# Altium integrated library Microchip Power Management Switching Regulator.IntLib: 304 symbols (part 3 of 9)
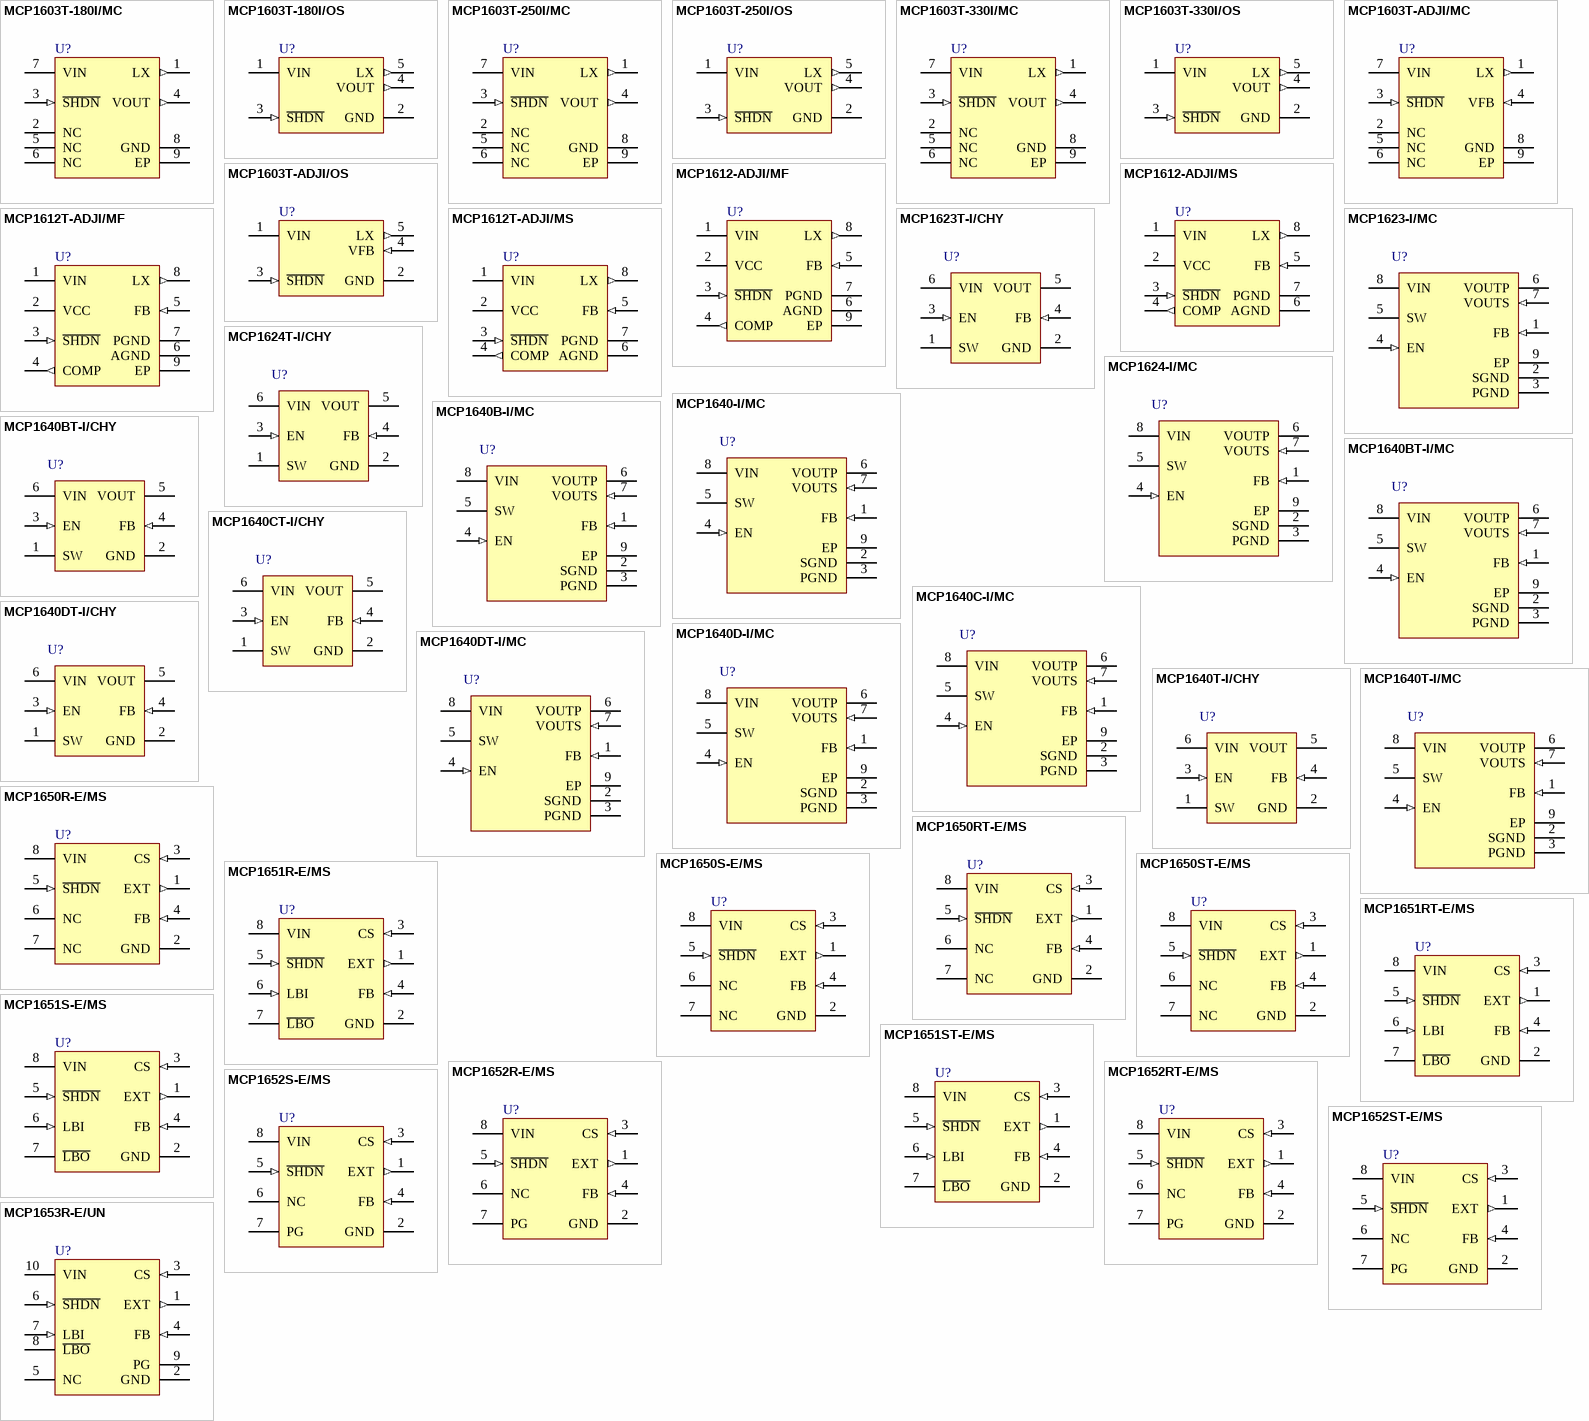
[diagram p9: symbols MCP1603T-180I/MC to MCP1653R-E/UN]

## MCP1651ST-E/MS
designator U?
750 kHz Boost Controller, Low Battery Detection, 2.55V, 8-Pin MSOP, Extended Temperature, Tape and Reel; Manufacturer: Microchip; PartNumber: MCP1651ST-E/MS; DatasheetVersion: revA, Mar-2004; PackageVersion: revBB, Aug-2009; PackageReference: MSOP-MS8; PackageDescription: 8-Lead Plastic Micro Small Outline Package (MS) [MSOP]; Supplier 1: Digi-Key; Supplier Part Number 1: MCP1651ST-E/MS-ND; Supplier 2: Mouser; Supplier Part Number 2: 579-MCP1651ST-E/MS; Mounting Technology: Surface Mount; ComponentLink1Description: Manufacturer URL; ComponentLink1URL: http://www.microchip.com/; ComponentLink2Description: Datasheet; ComponentLink2URL: http://ww1.microchip.com/downloads/en/DeviceDoc/21876a.pdf; ComponentLink3Description: Package Specification; ComponentLink3URL: http://www.microchip.com/stellent/groups/techpub_sg/documents/packagingspec/en012702.pdf
footprint MSOP-MS8_N (TSOP, 8-Leads, Body 3x3mm, Pitch 0.65mm, IPC Medium Density)
footprint MSOP-MS8_L (TSOP, 8-Leads, Body 3x3mm, Pitch 0.65mm, IPC High Density)
footprint MSOP-MS8_M (TSOP, 8-Leads, Body 3x3mm, Pitch 0.65mm, IPC Low Density)
pins: 1 EXT (out), 2 GND (power), 3 CS (in), 4 FB (in), 5 ~{SHDN} (in), 6 LBI (in), 7 ~{LBO} (oc), 8 VIN (power)

## MCP1652R-E/MS
designator U?
750 kHz Boost Controller, Power Good Indication, 2.0V, 8-Pin MSOP, Extended Temperature; Manufacturer: Microchip; PartNumber: MCP1652R-E/MS; DatasheetVersion: revA, Mar-2004; PackageVersion: revBB, Aug-2009; PackageReference: MSOP-MS8; PackageDescription: 8-Lead Plastic Micro Small Outline Package (MS) [MSOP]; Supplier 1: Digi-Key; Supplier Part Number 1: MCP1652R-E/MS-ND; Supplier 2: Mouser; Supplier Part Number 2: 579-MCP1652R-E/MS; Mounting Technology: Surface Mount; ComponentLink1Description: Manufacturer URL; ComponentLink1URL: http://www.microchip.com/; ComponentLink2Description: Datasheet; ComponentLink2URL: http://ww1.microchip.com/downloads/en/DeviceDoc/21876a.pdf; ComponentLink3Description: Package Specification; ComponentLink3URL: http://www.microchip.com/stellent/groups/techpub_sg/documents/packagingspec/en012702.pdf
footprint MSOP-MS8_N (TSOP, 8-Leads, Body 3x3mm, Pitch 0.65mm, IPC Medium Density)
footprint MSOP-MS8_L (TSOP, 8-Leads, Body 3x3mm, Pitch 0.65mm, IPC High Density)
footprint MSOP-MS8_M (TSOP, 8-Leads, Body 3x3mm, Pitch 0.65mm, IPC Low Density)
pins: 1 EXT (out), 2 GND (power), 3 CS (in), 4 FB (in), 5 ~{SHDN} (in), 6 NC, 7 PG (oc), 8 VIN (power)

## MCP1652RT-E/MS
designator U?
750 kHz Boost Controller, Power Good Indication, 2.0V, 8-Pin MSOP, Extended Temperature, Tape and Reel; Manufacturer: Microchip; PartNumber: MCP1652RT-E/MS; DatasheetVersion: revA, Mar-2004; PackageVersion: revBB, Aug-2009; PackageReference: MSOP-MS8; PackageDescription: 8-Lead Plastic Micro Small Outline Package (MS) [MSOP]; Supplier 1: Digi-Key; Supplier Part Number 1: MCP1652RT-E/MS-ND; Supplier 2: Mouser; Supplier Part Number 2: 579-MCP1652RT-E/MS; Mounting Technology: Surface Mount; ComponentLink1Description: Manufacturer URL; ComponentLink1URL: http://www.microchip.com/; ComponentLink2Description: Datasheet; ComponentLink2URL: http://ww1.microchip.com/downloads/en/DeviceDoc/21876a.pdf; ComponentLink3Description: Package Specification; ComponentLink3URL: http://www.microchip.com/stellent/groups/techpub_sg/documents/packagingspec/en012702.pdf
footprint MSOP-MS8_N (TSOP, 8-Leads, Body 3x3mm, Pitch 0.65mm, IPC Medium Density)
footprint MSOP-MS8_L (TSOP, 8-Leads, Body 3x3mm, Pitch 0.65mm, IPC High Density)
footprint MSOP-MS8_M (TSOP, 8-Leads, Body 3x3mm, Pitch 0.65mm, IPC Low Density)
pins: 1 EXT (out), 2 GND (power), 3 CS (in), 4 FB (in), 5 ~{SHDN} (in), 6 NC, 7 PG (oc), 8 VIN (power)

## MCP1652S-E/MS
designator U?
750 kHz Boost Controller, Power Good Indication, 2.55V, 8-Pin MSOP, Extended Temperature; Manufacturer: Microchip; PartNumber: MCP1652S-E/MS; DatasheetVersion: revA, Mar-2004; PackageVersion: revBB, Aug-2009; PackageReference: MSOP-MS8; PackageDescription: 8-Lead Plastic Micro Small Outline Package (MS) [MSOP]; Supplier 1: Digi-Key; Supplier Part Number 1: MCP1652S-E/MS-ND; Supplier 2: Farnell; Supplier Part Number 2: 1851936; Supplier 3: Newark; Supplier Part Number 3: 96K3711; Supplier 4: Mouser; Supplier Part Number 4: 579-MCP1652S-E/MS; Mounting Technology: Surface Mount; ComponentLink1Description: Manufacturer URL; ComponentLink1URL: http://www.microchip.com/; ComponentLink2Description: Datasheet; ComponentLink2URL: http://ww1.microchip.com/downloads/en/DeviceDoc/21876a.pdf; ComponentLink3Description: Package Specification; ComponentLink3URL: http://www.microchip.com/stellent/groups/techpub_sg/documents/packagingspec/en012702.pdf
footprint MSOP-MS8_N (TSOP, 8-Leads, Body 3x3mm, Pitch 0.65mm, IPC Medium Density)
footprint MSOP-MS8_L (TSOP, 8-Leads, Body 3x3mm, Pitch 0.65mm, IPC High Density)
footprint MSOP-MS8_M (TSOP, 8-Leads, Body 3x3mm, Pitch 0.65mm, IPC Low Density)
pins: 1 EXT (out), 2 GND (power), 3 CS (in), 4 FB (in), 5 ~{SHDN} (in), 6 NC, 7 PG (oc), 8 VIN (power)

## MCP1652ST-E/MS
designator U?
750 kHz Boost Controller, Power Good Indication, 2.55V, 8-Pin MSOP, Extended Temperature, Tape and Reel; Manufacturer: Microchip; PartNumber: MCP1652ST-E/MS; DatasheetVersion: revA, Mar-2004; PackageVersion: revBB, Aug-2009; PackageReference: MSOP-MS8; PackageDescription: 8-Lead Plastic Micro Small Outline Package (MS) [MSOP]; Supplier 1: Digi-Key; Supplier Part Number 1: MCP1652ST-E/MS-ND; Supplier 2: Mouser; Supplier Part Number 2: 579-MCP1652ST-E/MS; Mounting Technology: Surface Mount; ComponentLink1Description: Manufacturer URL; ComponentLink1URL: http://www.microchip.com/; ComponentLink2Description: Datasheet; ComponentLink2URL: http://ww1.microchip.com/downloads/en/DeviceDoc/21876a.pdf; ComponentLink3Description: Package Specification; ComponentLink3URL: http://www.microchip.com/stellent/groups/techpub_sg/documents/packagingspec/en012702.pdf
footprint MSOP-MS8_N (TSOP, 8-Leads, Body 3x3mm, Pitch 0.65mm, IPC Medium Density)
footprint MSOP-MS8_L (TSOP, 8-Leads, Body 3x3mm, Pitch 0.65mm, IPC High Density)
footprint MSOP-MS8_M (TSOP, 8-Leads, Body 3x3mm, Pitch 0.65mm, IPC Low Density)
pins: 1 EXT (out), 2 GND (power), 3 CS (in), 4 FB (in), 5 ~{SHDN} (in), 6 NC, 7 PG (oc), 8 VIN (power)

## MCP1653R-E/UN
designator U?
750 kHz Boost Controller, Low Battery Detection and PG, 2.0V, 10-Pin MSOP, Extended Temperature; Manufacturer: Microchip; PartNumber: MCP1653R-E/UN; DatasheetVersion: revA, Mar-2004; PackageVersion: revBB, Aug-2009; PackageReference: MSOP-UN10; PackageDescription: 10-Lead Plastic Micro Small Outline Package (UN) [MSOP]; Supplier 1: Digi-Key; Supplier Part Number 1: MCP1653R-E/UN-ND; Supplier 2: Farnell; Supplier Part Number 2: 1439379; Supplier 3: Newark; Supplier Part Number 3: 96K3712; Supplier 4: Mouser; Supplier Part Number 4: 579-MCP1653R-E/UN; Mounting Technology: Surface Mount; ComponentLink1Description: Manufacturer URL; ComponentLink1URL: http://www.microchip.com/; ComponentLink2Description: Datasheet; ComponentLink2URL: http://ww1.microchip.com/downloads/en/DeviceDoc/21876a.pdf; ComponentLink3Description: Package Specification; ComponentLink3URL: http://www.microchip.com/stellent/groups/techpub_sg/documents/packagingspec/en012702.pdf
footprint MSOP-UN10_N (TSSOP, 10-Leads, Body 3x3mm, Pitch 0.5mm, IPC Medium Density)
footprint MSOP-UN10_L (TSSOP, 10-Leads, Body 3x3mm, Pitch 0.5mm, IPC High Density)
footprint MSOP-UN10_M (TSSOP, 10-Leads, Body 3x3mm, Pitch 0.5mm, IPC Low Density)
pins: 1 EXT (out), 2 GND (power), 3 CS (in), 4 FB (in), 5 NC, 6 ~{SHDN} (in), 7 LBI (in), 8 ~{LBO} (oc), 9 PG (oc), 10 VIN (power)

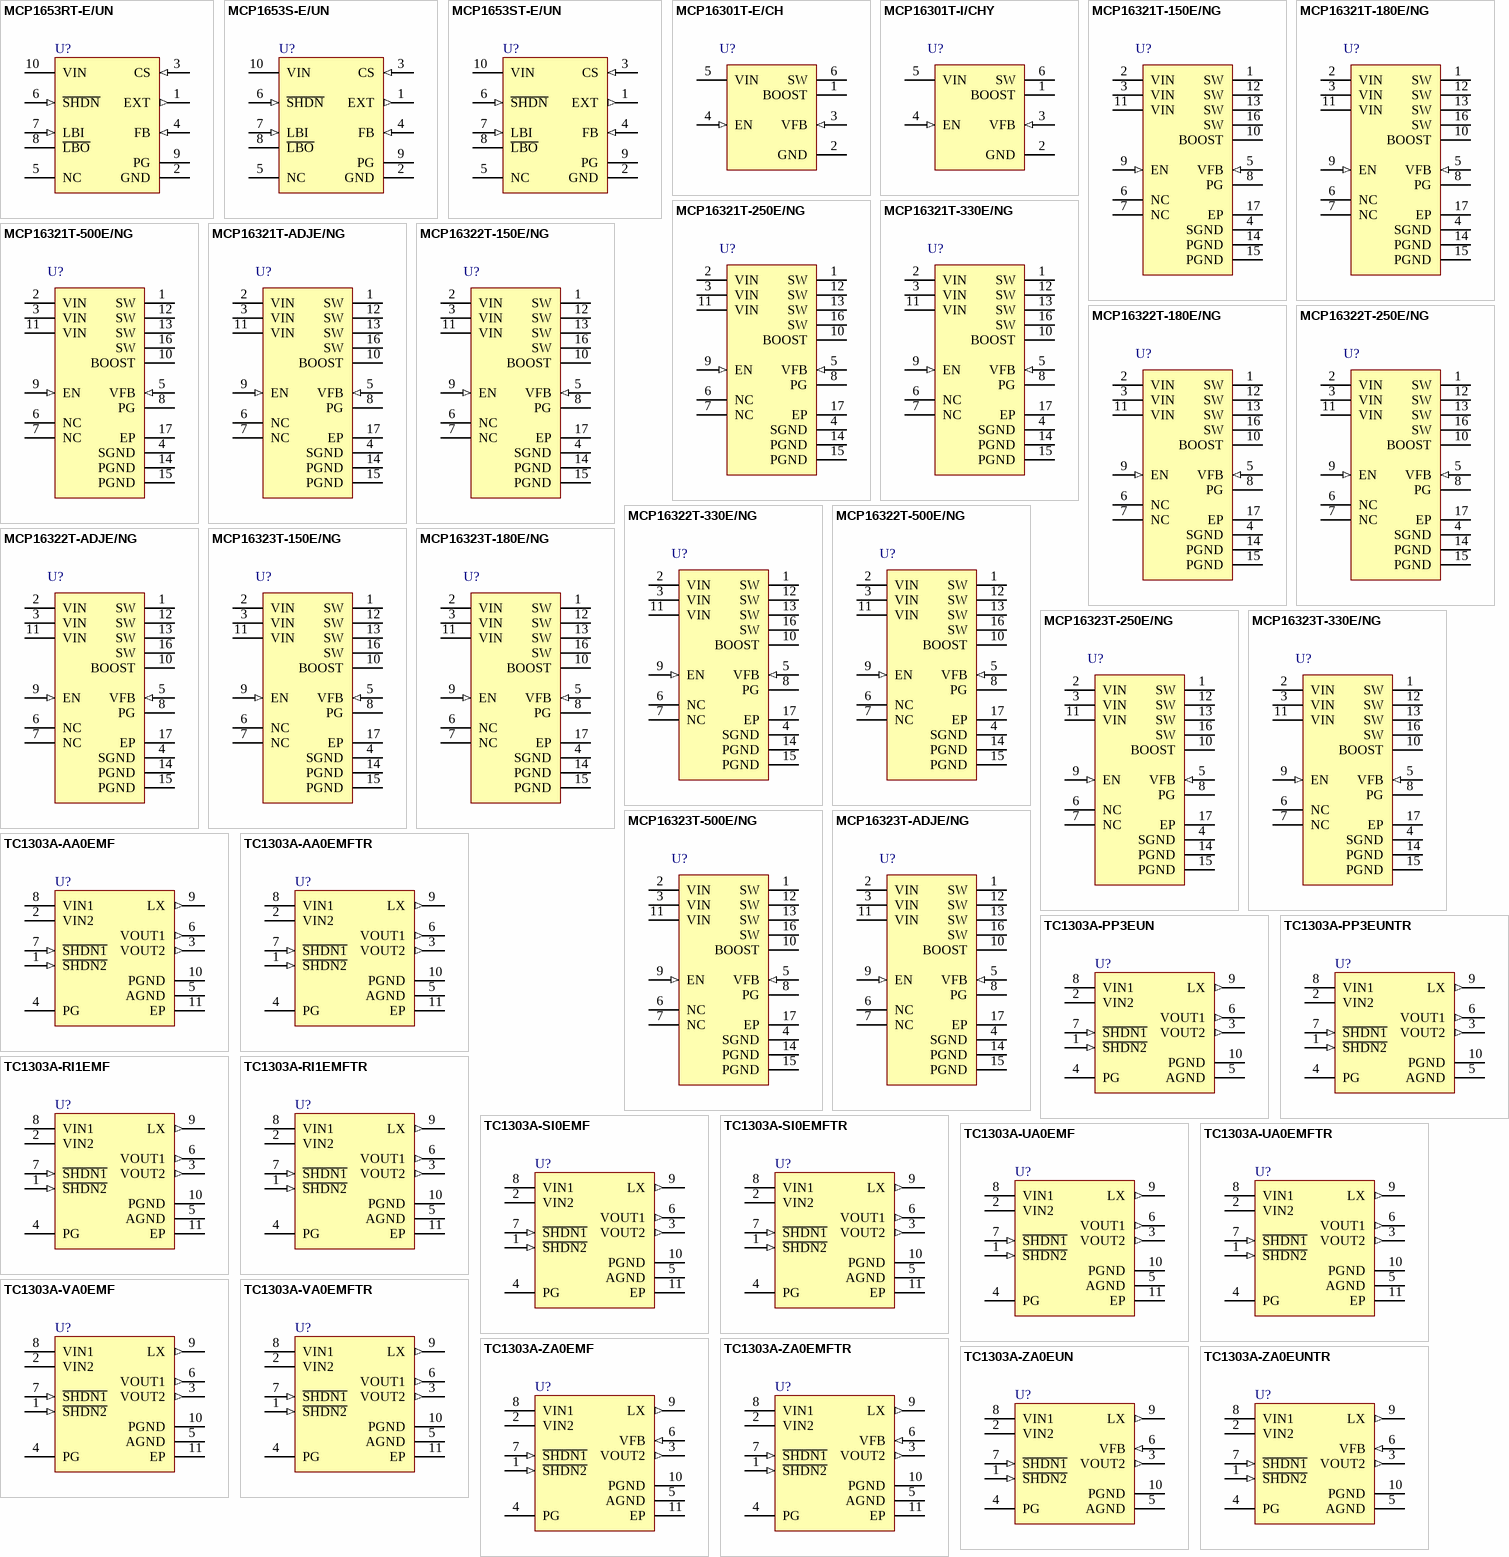
[diagram p2: symbols MCP1653RT-E/UN to TC1303A-ZA0EUNTR]

## MCP1653RT-E/UN
designator U?
750 kHz Boost Controller, Low Battery Detection and PG, 2.0V, 10-Pin MSOP, Extended Temperature, Tape and Reel; Manufacturer: Microchip; PartNumber: MCP1653RT-E/UN; DatasheetVersion: revA, Mar-2004; PackageVersion: revBB, Aug-2009; PackageReference: MSOP-UN10; PackageDescription: 10-Lead Plastic Micro Small Outline Package (UN) [MSOP]; Supplier 1: Digi-Key; Supplier Part Number 1: MCP1653RT-E/UN-ND; Supplier 2: Mouser; Supplier Part Number 2: 579-MCP1653RT-E/UN; Mounting Technology: Surface Mount; ComponentLink1Description: Manufacturer URL; ComponentLink1URL: http://www.microchip.com/; ComponentLink2Description: Datasheet; ComponentLink2URL: http://ww1.microchip.com/downloads/en/DeviceDoc/21876a.pdf; ComponentLink3Description: Package Specification; ComponentLink3URL: http://www.microchip.com/stellent/groups/techpub_sg/documents/packagingspec/en012702.pdf
footprint MSOP-UN10_N (TSSOP, 10-Leads, Body 3x3mm, Pitch 0.5mm, IPC Medium Density)
footprint MSOP-UN10_L (TSSOP, 10-Leads, Body 3x3mm, Pitch 0.5mm, IPC High Density)
footprint MSOP-UN10_M (TSSOP, 10-Leads, Body 3x3mm, Pitch 0.5mm, IPC Low Density)
pins: 1 EXT (out), 2 GND (power), 3 CS (in), 4 FB (in), 5 NC, 6 ~{SHDN} (in), 7 LBI (in), 8 ~{LBO} (oc), 9 PG (oc), 10 VIN (power)

## MCP1653S-E/UN
designator U?
750 kHz Boost Controller, Low Battery Detection and PG, 2.55V, 10-Pin MSOP, Extended Temperature; Manufacturer: Microchip; PartNumber: MCP1653S-E/UN; DatasheetVersion: revA, Mar-2004; PackageVersion: revBB, Aug-2009; PackageReference: MSOP-UN10; PackageDescription: 10-Lead Plastic Micro Small Outline Package (UN) [MSOP]; Supplier 1: Digi-Key; Supplier Part Number 1: MCP1653S-E/UN-ND; Supplier 2: Farnell; Supplier Part Number 2: 1851938; Supplier 3: Newark; Supplier Part Number 3: 96K3713; Supplier 4: Mouser; Supplier Part Number 4: 579-MCP1653S-E/UN; Mounting Technology: Surface Mount; ComponentLink1Description: Manufacturer URL; ComponentLink1URL: http://www.microchip.com/; ComponentLink2Description: Datasheet; ComponentLink2URL: http://ww1.microchip.com/downloads/en/DeviceDoc/21876a.pdf; ComponentLink3Description: Package Specification; ComponentLink3URL: http://www.microchip.com/stellent/groups/techpub_sg/documents/packagingspec/en012702.pdf
footprint MSOP-UN10_N (TSSOP, 10-Leads, Body 3x3mm, Pitch 0.5mm, IPC Medium Density)
footprint MSOP-UN10_L (TSSOP, 10-Leads, Body 3x3mm, Pitch 0.5mm, IPC High Density)
footprint MSOP-UN10_M (TSSOP, 10-Leads, Body 3x3mm, Pitch 0.5mm, IPC Low Density)
pins: 1 EXT (out), 2 GND (power), 3 CS (in), 4 FB (in), 5 NC, 6 ~{SHDN} (in), 7 LBI (in), 8 ~{LBO} (oc), 9 PG (oc), 10 VIN (power)

## MCP1653ST-E/UN
designator U?
750 kHz Boost Controller, Low Battery Detection and PG, 2.55V, 10-Pin MSOP, Extended Temperature, Tape and Reel; Manufacturer: Microchip; PartNumber: MCP1653ST-E/UN; DatasheetVersion: revA, Mar-2004; PackageVersion: revBB, Aug-2009; PackageReference: MSOP-UN10; PackageDescription: 10-Lead Plastic Micro Small Outline Package (UN) [MSOP]; Supplier 1: Digi-Key; Supplier Part Number 1: MCP1653ST-E/UN-ND; Supplier 2: Mouser; Supplier Part Number 2: 579-MCP1653ST-E/UN; Mounting Technology: Surface Mount; ComponentLink1Description: Manufacturer URL; ComponentLink1URL: http://www.microchip.com/; ComponentLink2Description: Datasheet; ComponentLink2URL: http://ww1.microchip.com/downloads/en/DeviceDoc/21876a.pdf; ComponentLink3Description: Package Specification; ComponentLink3URL: http://www.microchip.com/stellent/groups/techpub_sg/documents/packagingspec/en012702.pdf
footprint MSOP-UN10_N (TSSOP, 10-Leads, Body 3x3mm, Pitch 0.5mm, IPC Medium Density)
footprint MSOP-UN10_L (TSSOP, 10-Leads, Body 3x3mm, Pitch 0.5mm, IPC High Density)
footprint MSOP-UN10_M (TSSOP, 10-Leads, Body 3x3mm, Pitch 0.5mm, IPC Low Density)
pins: 1 EXT (out), 2 GND (power), 3 CS (in), 4 FB (in), 5 NC, 6 ~{SHDN} (in), 7 LBI (in), 8 ~{LBO} (oc), 9 PG (oc), 10 VIN (power)

## MCP16301T-E/CH
designator U?
High-Voltage Input Integrated Switch Step-Down Regulator, 600 mA, Input Voltage 4.0 to 30 V, Output Voltage 2.0 to 15 V, -40 to 125 degC, 6-pin SOT-23 (CH6), Tape and Reel; Manufacturer: Microchip; PartNumber: MCP16301T-E/CH; DatasheetVersion: Rev. B; PackageVersion: C04-028B; PackageReference: SOT-23-CH6; PackageDescription: 6-Lead Plastic Small Outline Transistor, 2.9 x 1.55 mm Body, 0.95 mm Pitch; Supplier 1: Digi-Key; Supplier Part Number 1: MCP16301T-E/CH-ND; Supplier 2: Newark; Supplier Part Number 2: 31W8729; Supplier 3: Mouser; Supplier Part Number 3: 579-MCP16301T-E/CH; Mounting Technology: Surface Mount; ComponentLink1Description: Manufacturer URL; ComponentLink1URL: http://www.microchip.com; ComponentLink2Description: Datasheet; ComponentLink2URL: http://ww1.microchip.com/downloads/en/DeviceDoc/25004B.pdf; ComponentLink3Description: Package Specification; ComponentLink3URL: http://www.microchip.com/stellent/groups/techpub_sg/documents/packagingspec/en012702.pdf; ComponentLink4Description: Product URL; ComponentLink4URL: http://www.microchip.com/MCP16301
footprint MCHP-SOT-23-CH6_N (SOT23, 6-Leads, Body 2.9x1.55mm, Pitch 0.95mm, IPC Medium Density)
footprint MCHP-SOT-23-CH6_L (SOT23, 6-Leads, Body 2.9x1.55mm, Pitch 0.95mm, IPC High Density)
footprint MCHP-SOT-23-CH6_M (SOT23, 6-Leads, Body 2.9x1.55mm, Pitch 0.95mm, IPC Low Density)
pins: 1 BOOST (power) "Boost voltage that drives the internal NMOS control switch. A bootstrap capacitor is connected between the BOOST and SW pins.", 2 GND (power) "Ground Pin", 3 VFB (in) "Output voltage feedback pin. Connect VFB to an external resistor divider to set the output voltage.", 4 EN (in) "Enable pin. Logic high enables the operation. Do not allow this pin to float", 5 VIN (power) "Input supply voltage pin for power and internal biasing.", 6 SW (power) "Output switch node, connects to the inductor, freewheeling diode and the bootstrap capacitor."

## MCP16301T-I/CHY
designator U?
High-Voltage Input Integrated Switch Step-Down Regulator, 600 mA, Input Voltage 4.0 to 30 V, Output Voltage 2.0 to 15 V, -40 to 85 degC, 6-pin SOT-23 (CHY6), Tape and Reel; Manufacturer: Microchip; PartNumber: MCP16301T-I/CHY; DatasheetVersion: Rev. B; PackageVersion: C04-028B; PackageReference: SOT-23-CHY6; PackageDescription: 6-Lead Plastic Small Outline Transistor, 2.9 x 1.55 mm Body, 0.95 mm Pitch; Supplier 1: Digi-Key; Supplier Part Number 1: MCP16301T-I/CHYTR-ND; Supplier 2: Digi-Key; Supplier Part Number 2: MCP16301T-I/CHYCT-ND; Supplier 3: Digi-Key; Supplier Part Number 3: MCP16301T-I/CHYDKR-ND; Supplier 4: Farnell; Supplier Part Number 4: 2009288RL; Supplier 5: Farnell; Supplier Part Number 5: 2009288; Supplier 6: Farnell; Supplier Part Number 6: 1936559; Supplier 7: Newark; Supplier Part Number 7: 30T2375; Supplier 8: Mouser; Supplier Part Number 8: 579-MCP16301T-I/CHY; Mounting Technology: Surface Mount; ComponentLink1Description: Manufacturer URL; ComponentLink1URL: http://www.microchip.com; ComponentLink2Description: Datasheet; ComponentLink2URL: http://ww1.microchip.com/downloads/en/DeviceDoc/25004B.pdf; ComponentLink3Description: Package Specification; ComponentLink3URL: http://www.microchip.com/stellent/groups/techpub_sg/documents/packagingspec/en012702.pdf; ComponentLink4Description: Product URL; ComponentLink4URL: http://www.microchip.com/MCP16301
footprint MCHP-SOT-23-CHY6_N (SOT23, 6-Leads, Body 2.9x1.55mm, Pitch 0.95mm, IPC Medium Density)
footprint MCHP-SOT-23-CHY6_L (SOT23, 6-Leads, Body 2.9x1.55mm, Pitch 0.95mm, IPC High Density)
footprint MCHP-SOT-23-CHY6_M (SOT23, 6-Leads, Body 2.9x1.55mm, Pitch 0.95mm, IPC Low Density)
pins: 1 BOOST (power) "Boost voltage that drives the internal NMOS control switch. A bootstrap capacitor is connected between the BOOST and SW pins.", 2 GND (power) "Ground Pin", 3 VFB (in) "Output voltage feedback pin. Connect VFB to an external resistor divider to set the output voltage.", 4 EN (in) "Enable pin. Logic high enables the operation. Do not allow this pin to float", 5 VIN (power) "Input supply voltage pin for power and internal biasing.", 6 SW (power) "Output switch node, connects to the inductor, freewheeling diode and the bootstrap capacitor."

## MCP16321T-150E/NG
designator U?
High Efficiency Synchronous Buck Regulator with Power Good Indication, Input Voltage 6 to 24 V, Output Voltage 1.5 V, -40 to 125 degC, 16-pin VQFN (NG16), Tape and Reel; Manufacturer: Microchip; PartNumber: MCP16321T-150E/NG; DatasheetVersion: Rev. A; PackageVersion: C04-197A; PackageReference: VQFN-NG16; PackageDescription: 16-Lead Plastic Quad Flat, 3 x 3 mm Body, 0.5 mm Pitch; Supplier 1: Digi-Key; Supplier Part Number 1: MCP16321T-150E/NGTR-ND; Supplier 2: Digi-Key; Supplier Part Number 2: MCP16321T-150E/NGCT-ND; Supplier 3: Digi-Key; Supplier Part Number 3: MCP16321T-150E/NGDKR-ND; Supplier 4: Mouser; Supplier Part Number 4: 579-MCP16321T150ENG; Mounting Technology: Surface Mount; ComponentLink1Description: Manufacturer URL; ComponentLink1URL: http://www.microchip.com; ComponentLink2Description: Datasheet; ComponentLink2URL: http://ww1.microchip.com/downloads/en/DeviceDoc/22285A.pdf; ComponentLink3Description: Package Specification; ComponentLink3URL: http://www.microchip.com/stellent/groups/techpub_sg/documents/packagingspec/en012702.pdf; ComponentLink4Description: Product URL; ComponentLink4URL: http://www.microchip.com/MCP16321
footprint MCHP-VQFN-NG16_N (QFN, 16-Leads, Body 3x3mm, Pitch 0.5mm, Thermal Pad 1.675x1.675mm, IPC Medium Density)
footprint MCHP-VQFN-NG16_L (QFN, 16-Leads, Body 3x3mm, Pitch 0.5mm, Thermal Pad 1.675x1.675mm, IPC High Density)
footprint MCHP-VQFN-NG16_M (QFN, 16-Leads, Body 3x3mm, Pitch 0.5mm, Thermal Pad 1.675x1.675mm, IPC Low Density)
pins: 1 SW (power) "Output switch node, connects to the inductor and the bootstrap capacitor", 2 VIN (power) "Input supply voltage pin for power and internal biasing", 3 VIN (power) "Input supply voltage pin for power and internal biasing", 4 SGND (power) "Primary signal ground", 5 VFB (in) "Output voltage feedback pin. Connect VFB to VOUT for fixed version and output resistor divider for adjustable version.", 6 NC "No Connection", 7 NC "No Connection", 8 PG (oc) "Power Good open-drain output, pulled up to a maximum of 6V", 9 EN (in) "Enable input pin. Logic high enables the operation. Internally pulled up, pull EN pin low to disable regulator’s output. Maximum voltage on EN input is 6V.", 10 BOOST (power) "Boost voltage that drives the internal NMOS control switch. A bootstrap capacitor is connected between the BOOST and SW pins.", 11 VIN (power) "Input supply voltage pin for power and internal biasing", 12 SW (power) "Output switch node, connects to the inductor and the bootstrap capacitor", 13 SW (power) "Output switch node, connects to the inductor and the bootstrap capacitor", 14 PGND (power) "GND supply for the internal low-side NMOS/integrated diode", 15 PGND (power) "GND supply for the internal low-side NMOS/integrated diode", 16 SW (power) "Output switch node, connects to the inductor and the bootstrap capacitor", 17 EP (power) "Exposed Thermal Pad (EP); must be connected to GND"

## MCP16321T-180E/NG
designator U?
High Efficiency Synchronous Buck Regulator with Power Good Indication, Input Voltage 6 to 24 V, Output Voltage 1.8 V, -40 to 125 degC, 16-pin VQFN (NG16), Tape and Reel; Manufacturer: Microchip; PartNumber: MCP16321T-180E/NG; DatasheetVersion: Rev. A; PackageVersion: C04-197A; PackageReference: VQFN-NG16; PackageDescription: 16-Lead Plastic Quad Flat, 3 x 3 mm Body, 0.5 mm Pitch; Supplier 1: Digi-Key; Supplier Part Number 1: MCP16321T-180E/NGTR-ND; Supplier 2: Digi-Key; Supplier Part Number 2: MCP16321T-180E/NGCT-ND; Supplier 3: Digi-Key; Supplier Part Number 3: MCP16321T-180E/NGDKR-ND; Supplier 4: Farnell; Supplier Part Number 4: 2080508; Supplier 5: Newark; Supplier Part Number 5: 76T2214; Supplier 6: Mouser; Supplier Part Number 6: 579-MCP16321T-180ENG; Mounting Technology: Surface Mount; ComponentLink1Description: Manufacturer URL; ComponentLink1URL: http://www.microchip.com; ComponentLink2Description: Datasheet; ComponentLink2URL: http://ww1.microchip.com/downloads/en/DeviceDoc/22285A.pdf; ComponentLink3Description: Package Specification; ComponentLink3URL: http://www.microchip.com/stellent/groups/techpub_sg/documents/packagingspec/en012702.pdf; ComponentLink4Description: Product URL; ComponentLink4URL: http://www.microchip.com/MCP16321
footprint MCHP-VQFN-NG16_N (QFN, 16-Leads, Body 3x3mm, Pitch 0.5mm, Thermal Pad 1.675x1.675mm, IPC Medium Density)
footprint MCHP-VQFN-NG16_L (QFN, 16-Leads, Body 3x3mm, Pitch 0.5mm, Thermal Pad 1.675x1.675mm, IPC High Density)
footprint MCHP-VQFN-NG16_M (QFN, 16-Leads, Body 3x3mm, Pitch 0.5mm, Thermal Pad 1.675x1.675mm, IPC Low Density)
pins: 1 SW (power) "Output switch node, connects to the inductor and the bootstrap capacitor", 2 VIN (power) "Input supply voltage pin for power and internal biasing", 3 VIN (power) "Input supply voltage pin for power and internal biasing", 4 SGND (power) "Primary signal ground", 5 VFB (in) "Output voltage feedback pin. Connect VFB to VOUT for fixed version and output resistor divider for adjustable version.", 6 NC "No Connection", 7 NC "No Connection", 8 PG (oc) "Power Good open-drain output, pulled up to a maximum of 6V", 9 EN (in) "Enable input pin. Logic high enables the operation. Internally pulled up, pull EN pin low to disable regulator’s output. Maximum voltage on EN input is 6V.", 10 BOOST (power) "Boost voltage that drives the internal NMOS control switch. A bootstrap capacitor is connected between the BOOST and SW pins.", 11 VIN (power) "Input supply voltage pin for power and internal biasing", 12 SW (power) "Output switch node, connects to the inductor and the bootstrap capacitor", 13 SW (power) "Output switch node, connects to the inductor and the bootstrap capacitor", 14 PGND (power) "GND supply for the internal low-side NMOS/integrated diode", 15 PGND (power) "GND supply for the internal low-side NMOS/integrated diode", 16 SW (power) "Output switch node, connects to the inductor and the bootstrap capacitor", 17 EP (power) "Exposed Thermal Pad (EP); must be connected to GND"

## MCP16321T-250E/NG
designator U?
High Efficiency Synchronous Buck Regulator with Power Good Indication, Input Voltage 6 to 24 V, Output Voltage 2.5 V, -40 to 125 degC, 16-pin VQFN (NG16), Tape and Reel; Manufacturer: Microchip; PartNumber: MCP16321T-250E/NG; DatasheetVersion: Rev. A; PackageVersion: C04-197A; PackageReference: VQFN-NG16; PackageDescription: 16-Lead Plastic Quad Flat, 3 x 3 mm Body, 0.5 mm Pitch; Supplier 1: Digi-Key; Supplier Part Number 1: MCP16321T-250E/NGTR-ND; Supplier 2: Digi-Key; Supplier Part Number 2: MCP16321T-250E/NGCT-ND; Supplier 3: Digi-Key; Supplier Part Number 3: MCP16321T-250E/NGDKR-ND; Supplier 4: Mouser; Supplier Part Number 4: 579-MCP16321T250ENG; Mounting Technology: Surface Mount; ComponentLink1Description: Manufacturer URL; ComponentLink1URL: http://www.microchip.com; ComponentLink2Description: Datasheet; ComponentLink2URL: http://ww1.microchip.com/downloads/en/DeviceDoc/22285A.pdf; ComponentLink3Description: Package Specification; ComponentLink3URL: http://www.microchip.com/stellent/groups/techpub_sg/documents/packagingspec/en012702.pdf; ComponentLink4Description: Product URL; ComponentLink4URL: http://www.microchip.com/MCP16321
footprint MCHP-VQFN-NG16_N (QFN, 16-Leads, Body 3x3mm, Pitch 0.5mm, Thermal Pad 1.675x1.675mm, IPC Medium Density)
footprint MCHP-VQFN-NG16_L (QFN, 16-Leads, Body 3x3mm, Pitch 0.5mm, Thermal Pad 1.675x1.675mm, IPC High Density)
footprint MCHP-VQFN-NG16_M (QFN, 16-Leads, Body 3x3mm, Pitch 0.5mm, Thermal Pad 1.675x1.675mm, IPC Low Density)
pins: 1 SW (power) "Output switch node, connects to the inductor and the bootstrap capacitor", 2 VIN (power) "Input supply voltage pin for power and internal biasing", 3 VIN (power) "Input supply voltage pin for power and internal biasing", 4 SGND (power) "Primary signal ground", 5 VFB (in) "Output voltage feedback pin. Connect VFB to VOUT for fixed version and output resistor divider for adjustable version.", 6 NC "No Connection", 7 NC "No Connection", 8 PG (oc) "Power Good open-drain output, pulled up to a maximum of 6V", 9 EN (in) "Enable input pin. Logic high enables the operation. Internally pulled up, pull EN pin low to disable regulator’s output. Maximum voltage on EN input is 6V.", 10 BOOST (power) "Boost voltage that drives the internal NMOS control switch. A bootstrap capacitor is connected between the BOOST and SW pins.", 11 VIN (power) "Input supply voltage pin for power and internal biasing", 12 SW (power) "Output switch node, connects to the inductor and the bootstrap capacitor", 13 SW (power) "Output switch node, connects to the inductor and the bootstrap capacitor", 14 PGND (power) "GND supply for the internal low-side NMOS/integrated diode", 15 PGND (power) "GND supply for the internal low-side NMOS/integrated diode", 16 SW (power) "Output switch node, connects to the inductor and the bootstrap capacitor", 17 EP (power) "Exposed Thermal Pad (EP); must be connected to GND"

## MCP16321T-330E/NG
designator U?
High Efficiency Synchronous Buck Regulator with Power Good Indication, Input Voltage 6 to 24 V, Output Voltage 3.3 V, -40 to 125 degC, 16-pin VQFN (NG16), Tape and Reel; Manufacturer: Microchip; PartNumber: MCP16321T-330E/NG; DatasheetVersion: Rev. A; PackageVersion: C04-197A; PackageReference: VQFN-NG16; PackageDescription: 16-Lead Plastic Quad Flat, 3 x 3 mm Body, 0.5 mm Pitch; Supplier 1: Digi-Key; Supplier Part Number 1: MCP16321T-330E/NGTR-ND; Supplier 2: Digi-Key; Supplier Part Number 2: MCP16321T-330E/NGCT-ND; Supplier 3: Digi-Key; Supplier Part Number 3: MCP16321T-330E/NGDKR-ND; Supplier 4: Farnell; Supplier Part Number 4: 2080509; Supplier 5: Newark; Supplier Part Number 5: 83T2987; Supplier 6: Newark; Supplier Part Number 6: 76T2216; Supplier 7: Mouser; Supplier Part Number 7: 579-MCP16321T-330ENG; Mounting Technology: Surface Mount; ComponentLink1Description: Manufacturer URL; ComponentLink1URL: http://www.microchip.com; ComponentLink2Description: Datasheet; ComponentLink2URL: http://ww1.microchip.com/downloads/en/DeviceDoc/22285A.pdf; ComponentLink3Description: Package Specification; ComponentLink3URL: http://www.microchip.com/stellent/groups/techpub_sg/documents/packagingspec/en012702.pdf; ComponentLink4Description: Product URL; ComponentLink4URL: http://www.microchip.com/MCP16321
footprint MCHP-VQFN-NG16_N (QFN, 16-Leads, Body 3x3mm, Pitch 0.5mm, Thermal Pad 1.675x1.675mm, IPC Medium Density)
footprint MCHP-VQFN-NG16_L (QFN, 16-Leads, Body 3x3mm, Pitch 0.5mm, Thermal Pad 1.675x1.675mm, IPC High Density)
footprint MCHP-VQFN-NG16_M (QFN, 16-Leads, Body 3x3mm, Pitch 0.5mm, Thermal Pad 1.675x1.675mm, IPC Low Density)
pins: 1 SW (power) "Output switch node, connects to the inductor and the bootstrap capacitor", 2 VIN (power) "Input supply voltage pin for power and internal biasing", 3 VIN (power) "Input supply voltage pin for power and internal biasing", 4 SGND (power) "Primary signal ground", 5 VFB (in) "Output voltage feedback pin. Connect VFB to VOUT for fixed version and output resistor divider for adjustable version.", 6 NC "No Connection", 7 NC "No Connection", 8 PG (oc) "Power Good open-drain output, pulled up to a maximum of 6V", 9 EN (in) "Enable input pin. Logic high enables the operation. Internally pulled up, pull EN pin low to disable regulator’s output. Maximum voltage on EN input is 6V.", 10 BOOST (power) "Boost voltage that drives the internal NMOS control switch. A bootstrap capacitor is connected between the BOOST and SW pins.", 11 VIN (power) "Input supply voltage pin for power and internal biasing", 12 SW (power) "Output switch node, connects to the inductor and the bootstrap capacitor", 13 SW (power) "Output switch node, connects to the inductor and the bootstrap capacitor", 14 PGND (power) "GND supply for the internal low-side NMOS/integrated diode", 15 PGND (power) "GND supply for the internal low-side NMOS/integrated diode", 16 SW (power) "Output switch node, connects to the inductor and the bootstrap capacitor", 17 EP (power) "Exposed Thermal Pad (EP); must be connected to GND"

## MCP16321T-500E/NG
designator U?
High Efficiency Synchronous Buck Regulator with Power Good Indication, Input Voltage 6 to 24 V, Output Voltage 5.0 V, -40 to 125 degC, 16-pin VQFN (NG16), Tape and Reel; Manufacturer: Microchip; PartNumber: MCP16321T-500E/NG; DatasheetVersion: Rev. A; PackageVersion: C04-197A; PackageReference: VQFN-NG16; PackageDescription: 16-Lead Plastic Quad Flat, 3 x 3 mm Body, 0.5 mm Pitch; Supplier 1: Digi-Key; Supplier Part Number 1: MCP16321T-500E/NGTR-ND; Supplier 2: Digi-Key; Supplier Part Number 2: MCP16321T-500E/NGCT-ND; Supplier 3: Digi-Key; Supplier Part Number 3: MCP16321T-500E/NGDKR-ND; Supplier 4: Farnell; Supplier Part Number 4: 2080510; Supplier 5: Newark; Supplier Part Number 5: 83T2988; Supplier 6: Newark; Supplier Part Number 6: 76T2217; Supplier 7: Mouser; Supplier Part Number 7: 579-MCP16321T-500ENG; Mounting Technology: Surface Mount; ComponentLink1Description: Manufacturer URL; ComponentLink1URL: http://www.microchip.com; ComponentLink2Description: Datasheet; ComponentLink2URL: http://ww1.microchip.com/downloads/en/DeviceDoc/22285A.pdf; ComponentLink3Description: Package Specification; ComponentLink3URL: http://www.microchip.com/stellent/groups/techpub_sg/documents/packagingspec/en012702.pdf; ComponentLink4Description: Product URL; ComponentLink4URL: http://www.microchip.com/MCP16321
footprint MCHP-VQFN-NG16_N (QFN, 16-Leads, Body 3x3mm, Pitch 0.5mm, Thermal Pad 1.675x1.675mm, IPC Medium Density)
footprint MCHP-VQFN-NG16_L (QFN, 16-Leads, Body 3x3mm, Pitch 0.5mm, Thermal Pad 1.675x1.675mm, IPC High Density)
footprint MCHP-VQFN-NG16_M (QFN, 16-Leads, Body 3x3mm, Pitch 0.5mm, Thermal Pad 1.675x1.675mm, IPC Low Density)
pins: 1 SW (power) "Output switch node, connects to the inductor and the bootstrap capacitor", 2 VIN (power) "Input supply voltage pin for power and internal biasing", 3 VIN (power) "Input supply voltage pin for power and internal biasing", 4 SGND (power) "Primary signal ground", 5 VFB (in) "Output voltage feedback pin. Connect VFB to VOUT for fixed version and output resistor divider for adjustable version.", 6 NC "No Connection", 7 NC "No Connection", 8 PG (oc) "Power Good open-drain output, pulled up to a maximum of 6V", 9 EN (in) "Enable input pin. Logic high enables the operation. Internally pulled up, pull EN pin low to disable regulator’s output. Maximum voltage on EN input is 6V.", 10 BOOST (power) "Boost voltage that drives the internal NMOS control switch. A bootstrap capacitor is connected between the BOOST and SW pins.", 11 VIN (power) "Input supply voltage pin for power and internal biasing", 12 SW (power) "Output switch node, connects to the inductor and the bootstrap capacitor", 13 SW (power) "Output switch node, connects to the inductor and the bootstrap capacitor", 14 PGND (power) "GND supply for the internal low-side NMOS/integrated diode", 15 PGND (power) "GND supply for the internal low-side NMOS/integrated diode", 16 SW (power) "Output switch node, connects to the inductor and the bootstrap capacitor", 17 EP (power) "Exposed Thermal Pad (EP); must be connected to GND"

## MCP16321T-ADJE/NG
designator U?
High Efficiency Synchronous Buck Regulator with Power Good Indication, Input Voltage 6 to 24 V, Output Voltage 0.9 to 5 V, -40 to 125 degC, 16-pin VQFN (NG16), Tape and Reel; Manufacturer: Microchip; PartNumber: MCP16321T-ADJE/NG; DatasheetVersion: Rev. A; PackageVersion: C04-197A; PackageReference: VQFN-NG16; PackageDescription: 16-Lead Plastic Quad Flat, 3 x 3 mm Body, 0.5 mm Pitch; Supplier 1: Digi-Key; Supplier Part Number 1: MCP16321T-ADJE/NGTR-ND; Supplier 2: Digi-Key; Supplier Part Number 2: MCP16321T-ADJE/NGCT-ND; Supplier 3: Digi-Key; Supplier Part Number 3: MCP16321T-ADJE/NGDKR-ND; Supplier 4: Farnell; Supplier Part Number 4: 2080511; Supplier 5: Newark; Supplier Part Number 5: 83T2985; Supplier 6: Newark; Supplier Part Number 6: 76T2212; Supplier 7: Mouser; Supplier Part Number 7: 579-MCP16321T-ADJENG; Mounting Technology: Surface Mount; ComponentLink1Description: Manufacturer URL; ComponentLink1URL: http://www.microchip.com; ComponentLink2Description: Datasheet; ComponentLink2URL: http://ww1.microchip.com/downloads/en/DeviceDoc/22285A.pdf; ComponentLink3Description: Package Specification; ComponentLink3URL: http://www.microchip.com/stellent/groups/techpub_sg/documents/packagingspec/en012702.pdf; ComponentLink4Description: Product URL; ComponentLink4URL: http://www.microchip.com/MCP16321
footprint MCHP-VQFN-NG16_N (QFN, 16-Leads, Body 3x3mm, Pitch 0.5mm, Thermal Pad 1.675x1.675mm, IPC Medium Density)
footprint MCHP-VQFN-NG16_L (QFN, 16-Leads, Body 3x3mm, Pitch 0.5mm, Thermal Pad 1.675x1.675mm, IPC High Density)
footprint MCHP-VQFN-NG16_M (QFN, 16-Leads, Body 3x3mm, Pitch 0.5mm, Thermal Pad 1.675x1.675mm, IPC Low Density)
pins: 1 SW (power) "Output switch node, connects to the inductor and the bootstrap capacitor", 2 VIN (power) "Input supply voltage pin for power and internal biasing", 3 VIN (power) "Input supply voltage pin for power and internal biasing", 4 SGND (power) "Primary signal ground", 5 VFB (in) "Output voltage feedback pin. Connect VFB to VOUT for fixed version and output resistor divider for adjustable version.", 6 NC "No Connection", 7 NC "No Connection", 8 PG (oc) "Power Good open-drain output, pulled up to a maximum of 6V", 9 EN (in) "Enable input pin. Logic high enables the operation. Internally pulled up, pull EN pin low to disable regulator’s output. Maximum voltage on EN input is 6V.", 10 BOOST (power) "Boost voltage that drives the internal NMOS control switch. A bootstrap capacitor is connected between the BOOST and SW pins.", 11 VIN (power) "Input supply voltage pin for power and internal biasing", 12 SW (power) "Output switch node, connects to the inductor and the bootstrap capacitor", 13 SW (power) "Output switch node, connects to the inductor and the bootstrap capacitor", 14 PGND (power) "GND supply for the internal low-side NMOS/integrated diode", 15 PGND (power) "GND supply for the internal low-side NMOS/integrated diode", 16 SW (power) "Output switch node, connects to the inductor and the bootstrap capacitor", 17 EP (power) "Exposed Thermal Pad (EP); must be connected to GND"

## MCP16322T-150E/NG
designator U?
High Efficiency Synchronous Buck Regulator with Power Good Indication, Input Voltage 6 to 24 V, Output Voltage 1.5 V, -40 to 125 degC, 16-pin VQFN (NG16), Tape and Reel; Manufacturer: Microchip; PartNumber: MCP16322T-150E/NG; DatasheetVersion: Rev. A; PackageVersion: C04-197A; PackageReference: VQFN-NG16; PackageDescription: 16-Lead Plastic Quad Flat, 3 x 3 mm Body, 0.5 mm Pitch; Supplier 1: Digi-Key; Supplier Part Number 1: MCP16322T-150E/NGTR-ND; Supplier 2: Digi-Key; Supplier Part Number 2: MCP16322T-150E/NGCT-ND; Supplier 3: Digi-Key; Supplier Part Number 3: MCP16322T-150E/NGDKR-ND; Supplier 4: Mouser; Supplier Part Number 4: 579-MCP16322T150ENG; Mounting Technology: Surface Mount; ComponentLink1Description: Manufacturer URL; ComponentLink1URL: http://www.microchip.com; ComponentLink2Description: Datasheet; ComponentLink2URL: http://ww1.microchip.com/downloads/en/DeviceDoc/22285A.pdf; ComponentLink3Description: Package Specification; ComponentLink3URL: http://www.microchip.com/stellent/groups/techpub_sg/documents/packagingspec/en012702.pdf; ComponentLink4Description: Product URL; ComponentLink4URL: http://www.microchip.com/MCP16322
footprint MCHP-VQFN-NG16_N (QFN, 16-Leads, Body 3x3mm, Pitch 0.5mm, Thermal Pad 1.675x1.675mm, IPC Medium Density)
footprint MCHP-VQFN-NG16_L (QFN, 16-Leads, Body 3x3mm, Pitch 0.5mm, Thermal Pad 1.675x1.675mm, IPC High Density)
footprint MCHP-VQFN-NG16_M (QFN, 16-Leads, Body 3x3mm, Pitch 0.5mm, Thermal Pad 1.675x1.675mm, IPC Low Density)
pins: 1 SW (power) "Output switch node, connects to the inductor and the bootstrap capacitor", 2 VIN (power) "Input supply voltage pin for power and internal biasing", 3 VIN (power) "Input supply voltage pin for power and internal biasing", 4 SGND (power) "Primary signal ground", 5 VFB (in) "Output voltage feedback pin. Connect VFB to VOUT for fixed version and output resistor divider for adjustable version.", 6 NC "No Connection", 7 NC "No Connection", 8 PG (oc) "Power Good open-drain output, pulled up to a maximum of 6V", 9 EN (in) "Enable input pin. Logic high enables the operation. Internally pulled up, pull EN pin low to disable regulator’s output. Maximum voltage on EN input is 6V.", 10 BOOST (power) "Boost voltage that drives the internal NMOS control switch. A bootstrap capacitor is connected between the BOOST and SW pins.", 11 VIN (power) "Input supply voltage pin for power and internal biasing", 12 SW (power) "Output switch node, connects to the inductor and the bootstrap capacitor", 13 SW (power) "Output switch node, connects to the inductor and the bootstrap capacitor", 14 PGND (power) "GND supply for the internal low-side NMOS/integrated diode", 15 PGND (power) "GND supply for the internal low-side NMOS/integrated diode", 16 SW (power) "Output switch node, connects to the inductor and the bootstrap capacitor", 17 EP (power) "Exposed Thermal Pad (EP); must be connected to GND"

## MCP16322T-180E/NG
designator U?
High Efficiency Synchronous Buck Regulator with Power Good Indication, Input Voltage 6 to 24 V, Output Voltage 1.8 V, -40 to 125 degC, 16-pin VQFN (NG16), Tape and Reel; Manufacturer: Microchip; PartNumber: MCP16322T-180E/NG; DatasheetVersion: Rev. A; PackageVersion: C04-197A; PackageReference: VQFN-NG16; PackageDescription: 16-Lead Plastic Quad Flat, 3 x 3 mm Body, 0.5 mm Pitch; Supplier 1: Digi-Key; Supplier Part Number 1: MCP16322T-180E/NGTR-ND; Supplier 2: Digi-Key; Supplier Part Number 2: MCP16322T-180E/NGCT-ND; Supplier 3: Digi-Key; Supplier Part Number 3: MCP16322T-180E/NGDKR-ND; Supplier 4: Farnell; Supplier Part Number 4: 2080512; Supplier 5: Newark; Supplier Part Number 5: 83T2990; Supplier 6: Newark; Supplier Part Number 6: 76T2220; Supplier 7: Mouser; Supplier Part Number 7: 579-MCP16322T-180ENG; Mounting Technology: Surface Mount; ComponentLink1Description: Manufacturer URL; ComponentLink1URL: http://www.microchip.com; ComponentLink2Description: Datasheet; ComponentLink2URL: http://ww1.microchip.com/downloads/en/DeviceDoc/22285A.pdf; ComponentLink3Description: Package Specification; ComponentLink3URL: http://www.microchip.com/stellent/groups/techpub_sg/documents/packagingspec/en012702.pdf; ComponentLink4Description: Product URL; ComponentLink4URL: http://www.microchip.com/MCP16322
footprint MCHP-VQFN-NG16_N (QFN, 16-Leads, Body 3x3mm, Pitch 0.5mm, Thermal Pad 1.675x1.675mm, IPC Medium Density)
footprint MCHP-VQFN-NG16_L (QFN, 16-Leads, Body 3x3mm, Pitch 0.5mm, Thermal Pad 1.675x1.675mm, IPC High Density)
footprint MCHP-VQFN-NG16_M (QFN, 16-Leads, Body 3x3mm, Pitch 0.5mm, Thermal Pad 1.675x1.675mm, IPC Low Density)
pins: 1 SW (power) "Output switch node, connects to the inductor and the bootstrap capacitor", 2 VIN (power) "Input supply voltage pin for power and internal biasing", 3 VIN (power) "Input supply voltage pin for power and internal biasing", 4 SGND (power) "Primary signal ground", 5 VFB (in) "Output voltage feedback pin. Connect VFB to VOUT for fixed version and output resistor divider for adjustable version.", 6 NC "No Connection", 7 NC "No Connection", 8 PG (oc) "Power Good open-drain output, pulled up to a maximum of 6V", 9 EN (in) "Enable input pin. Logic high enables the operation. Internally pulled up, pull EN pin low to disable regulator’s output. Maximum voltage on EN input is 6V.", 10 BOOST (power) "Boost voltage that drives the internal NMOS control switch. A bootstrap capacitor is connected between the BOOST and SW pins.", 11 VIN (power) "Input supply voltage pin for power and internal biasing", 12 SW (power) "Output switch node, connects to the inductor and the bootstrap capacitor", 13 SW (power) "Output switch node, connects to the inductor and the bootstrap capacitor", 14 PGND (power) "GND supply for the internal low-side NMOS/integrated diode", 15 PGND (power) "GND supply for the internal low-side NMOS/integrated diode", 16 SW (power) "Output switch node, connects to the inductor and the bootstrap capacitor", 17 EP (power) "Exposed Thermal Pad (EP); must be connected to GND"

## MCP16322T-250E/NG
designator U?
High Efficiency Synchronous Buck Regulator with Power Good Indication, Input Voltage 6 to 24 V, Output Voltage 2.5 V, -40 to 125 degC, 16-pin VQFN (NG16), Tape and Reel; Manufacturer: Microchip; PartNumber: MCP16322T-250E/NG; DatasheetVersion: Rev. A; PackageVersion: C04-197A; PackageReference: VQFN-NG16; PackageDescription: 16-Lead Plastic Quad Flat, 3 x 3 mm Body, 0.5 mm Pitch; Supplier 1: Digi-Key; Supplier Part Number 1: MCP16322T-250E/NGTR-ND; Supplier 2: Digi-Key; Supplier Part Number 2: MCP16322T-250E/NGCT-ND; Supplier 3: Digi-Key; Supplier Part Number 3: MCP16322T-250E/NGDKR-ND; Supplier 4: Mouser; Supplier Part Number 4: 579-MCP16322T250ENG; Mounting Technology: Surface Mount; ComponentLink1Description: Manufacturer URL; ComponentLink1URL: http://www.microchip.com; ComponentLink2Description: Datasheet; ComponentLink2URL: http://ww1.microchip.com/downloads/en/DeviceDoc/22285A.pdf; ComponentLink3Description: Package Specification; ComponentLink3URL: http://www.microchip.com/stellent/groups/techpub_sg/documents/packagingspec/en012702.pdf; ComponentLink4Description: Product URL; ComponentLink4URL: http://www.microchip.com/MCP16322
footprint MCHP-VQFN-NG16_N (QFN, 16-Leads, Body 3x3mm, Pitch 0.5mm, Thermal Pad 1.675x1.675mm, IPC Medium Density)
footprint MCHP-VQFN-NG16_L (QFN, 16-Leads, Body 3x3mm, Pitch 0.5mm, Thermal Pad 1.675x1.675mm, IPC High Density)
footprint MCHP-VQFN-NG16_M (QFN, 16-Leads, Body 3x3mm, Pitch 0.5mm, Thermal Pad 1.675x1.675mm, IPC Low Density)
pins: 1 SW (power) "Output switch node, connects to the inductor and the bootstrap capacitor", 2 VIN (power) "Input supply voltage pin for power and internal biasing", 3 VIN (power) "Input supply voltage pin for power and internal biasing", 4 SGND (power) "Primary signal ground", 5 VFB (in) "Output voltage feedback pin. Connect VFB to VOUT for fixed version and output resistor divider for adjustable version.", 6 NC "No Connection", 7 NC "No Connection", 8 PG (oc) "Power Good open-drain output, pulled up to a maximum of 6V", 9 EN (in) "Enable input pin. Logic high enables the operation. Internally pulled up, pull EN pin low to disable regulator’s output. Maximum voltage on EN input is 6V.", 10 BOOST (power) "Boost voltage that drives the internal NMOS control switch. A bootstrap capacitor is connected between the BOOST and SW pins.", 11 VIN (power) "Input supply voltage pin for power and internal biasing", 12 SW (power) "Output switch node, connects to the inductor and the bootstrap capacitor", 13 SW (power) "Output switch node, connects to the inductor and the bootstrap capacitor", 14 PGND (power) "GND supply for the internal low-side NMOS/integrated diode", 15 PGND (power) "GND supply for the internal low-side NMOS/integrated diode", 16 SW (power) "Output switch node, connects to the inductor and the bootstrap capacitor", 17 EP (power) "Exposed Thermal Pad (EP); must be connected to GND"

## MCP16322T-330E/NG
designator U?
High Efficiency Synchronous Buck Regulator with Power Good Indication, Input Voltage 6 to 24 V, Output Voltage 3.3 V, -40 to 125 degC, 16-pin VQFN (NG16), Tape and Reel; Manufacturer: Microchip; PartNumber: MCP16322T-330E/NG; DatasheetVersion: Rev. A; PackageVersion: C04-197A; PackageReference: VQFN-NG16; PackageDescription: 16-Lead Plastic Quad Flat, 3 x 3 mm Body, 0.5 mm Pitch; Supplier 1: Digi-Key; Supplier Part Number 1: MCP16322T-330E/NGTR-ND; Supplier 2: Digi-Key; Supplier Part Number 2: MCP16322T-330E/NGCT-ND; Supplier 3: Digi-Key; Supplier Part Number 3: MCP16322T-330E/NGDKR-ND; Supplier 4: Farnell; Supplier Part Number 4: 2080513; Supplier 5: Newark; Supplier Part Number 5: 83T2991; Supplier 6: Newark; Supplier Part Number 6: 76T2222; Supplier 7: Mouser; Supplier Part Number 7: 579-MCP16322T-330ENG; Mounting Technology: Surface Mount; ComponentLink1Description: Manufacturer URL; ComponentLink1URL: http://www.microchip.com; ComponentLink2Description: Datasheet; ComponentLink2URL: http://ww1.microchip.com/downloads/en/DeviceDoc/22285A.pdf; ComponentLink3Description: Package Specification; ComponentLink3URL: http://www.microchip.com/stellent/groups/techpub_sg/documents/packagingspec/en012702.pdf; ComponentLink4Description: Product URL; ComponentLink4URL: http://www.microchip.com/MCP16322
footprint MCHP-VQFN-NG16_N (QFN, 16-Leads, Body 3x3mm, Pitch 0.5mm, Thermal Pad 1.675x1.675mm, IPC Medium Density)
footprint MCHP-VQFN-NG16_L (QFN, 16-Leads, Body 3x3mm, Pitch 0.5mm, Thermal Pad 1.675x1.675mm, IPC High Density)
footprint MCHP-VQFN-NG16_M (QFN, 16-Leads, Body 3x3mm, Pitch 0.5mm, Thermal Pad 1.675x1.675mm, IPC Low Density)
pins: 1 SW (power) "Output switch node, connects to the inductor and the bootstrap capacitor", 2 VIN (power) "Input supply voltage pin for power and internal biasing", 3 VIN (power) "Input supply voltage pin for power and internal biasing", 4 SGND (power) "Primary signal ground", 5 VFB (in) "Output voltage feedback pin. Connect VFB to VOUT for fixed version and output resistor divider for adjustable version.", 6 NC "No Connection", 7 NC "No Connection", 8 PG (oc) "Power Good open-drain output, pulled up to a maximum of 6V", 9 EN (in) "Enable input pin. Logic high enables the operation. Internally pulled up, pull EN pin low to disable regulator’s output. Maximum voltage on EN input is 6V.", 10 BOOST (power) "Boost voltage that drives the internal NMOS control switch. A bootstrap capacitor is connected between the BOOST and SW pins.", 11 VIN (power) "Input supply voltage pin for power and internal biasing", 12 SW (power) "Output switch node, connects to the inductor and the bootstrap capacitor", 13 SW (power) "Output switch node, connects to the inductor and the bootstrap capacitor", 14 PGND (power) "GND supply for the internal low-side NMOS/integrated diode", 15 PGND (power) "GND supply for the internal low-side NMOS/integrated diode", 16 SW (power) "Output switch node, connects to the inductor and the bootstrap capacitor", 17 EP (power) "Exposed Thermal Pad (EP); must be connected to GND"

## MCP16322T-500E/NG
designator U?
High Efficiency Synchronous Buck Regulator with Power Good Indication, Input Voltage 6 to 24 V, Output Voltage 5.0 V, -40 to 125 degC, 16-pin VQFN (NG16), Tape and Reel; Manufacturer: Microchip; PartNumber: MCP16322T-500E/NG; DatasheetVersion: Rev. A; PackageVersion: C04-197A; PackageReference: VQFN-NG16; PackageDescription: 16-Lead Plastic Quad Flat, 3 x 3 mm Body, 0.5 mm Pitch; Supplier 1: Digi-Key; Supplier Part Number 1: MCP16322T-500E/NGTR-ND; Supplier 2: Digi-Key; Supplier Part Number 2: MCP16322T-500E/NGCT-ND; Supplier 3: Digi-Key; Supplier Part Number 3: MCP16322T-500E/NGDKR-ND; Supplier 4: Farnell; Supplier Part Number 4: 2080514; Supplier 5: Newark; Supplier Part Number 5: 76T2223; Supplier 6: Mouser; Supplier Part Number 6: 579-MCP16322T-500ENG; Mounting Technology: Surface Mount; ComponentLink1Description: Manufacturer URL; ComponentLink1URL: http://www.microchip.com; ComponentLink2Description: Datasheet; ComponentLink2URL: http://ww1.microchip.com/downloads/en/DeviceDoc/22285A.pdf; ComponentLink3Description: Package Specification; ComponentLink3URL: http://www.microchip.com/stellent/groups/techpub_sg/documents/packagingspec/en012702.pdf; ComponentLink4Description: Product URL; ComponentLink4URL: http://www.microchip.com/MCP16322
footprint MCHP-VQFN-NG16_N (QFN, 16-Leads, Body 3x3mm, Pitch 0.5mm, Thermal Pad 1.675x1.675mm, IPC Medium Density)
footprint MCHP-VQFN-NG16_L (QFN, 16-Leads, Body 3x3mm, Pitch 0.5mm, Thermal Pad 1.675x1.675mm, IPC High Density)
footprint MCHP-VQFN-NG16_M (QFN, 16-Leads, Body 3x3mm, Pitch 0.5mm, Thermal Pad 1.675x1.675mm, IPC Low Density)
pins: 1 SW (power) "Output switch node, connects to the inductor and the bootstrap capacitor", 2 VIN (power) "Input supply voltage pin for power and internal biasing", 3 VIN (power) "Input supply voltage pin for power and internal biasing", 4 SGND (power) "Primary signal ground", 5 VFB (in) "Output voltage feedback pin. Connect VFB to VOUT for fixed version and output resistor divider for adjustable version.", 6 NC "No Connection", 7 NC "No Connection", 8 PG (oc) "Power Good open-drain output, pulled up to a maximum of 6V", 9 EN (in) "Enable input pin. Logic high enables the operation. Internally pulled up, pull EN pin low to disable regulator’s output. Maximum voltage on EN input is 6V.", 10 BOOST (power) "Boost voltage that drives the internal NMOS control switch. A bootstrap capacitor is connected between the BOOST and SW pins.", 11 VIN (power) "Input supply voltage pin for power and internal biasing", 12 SW (power) "Output switch node, connects to the inductor and the bootstrap capacitor", 13 SW (power) "Output switch node, connects to the inductor and the bootstrap capacitor", 14 PGND (power) "GND supply for the internal low-side NMOS/integrated diode", 15 PGND (power) "GND supply for the internal low-side NMOS/integrated diode", 16 SW (power) "Output switch node, connects to the inductor and the bootstrap capacitor", 17 EP (power) "Exposed Thermal Pad (EP); must be connected to GND"